# EAGLE library part ESP_THIAGO (library esp8266)
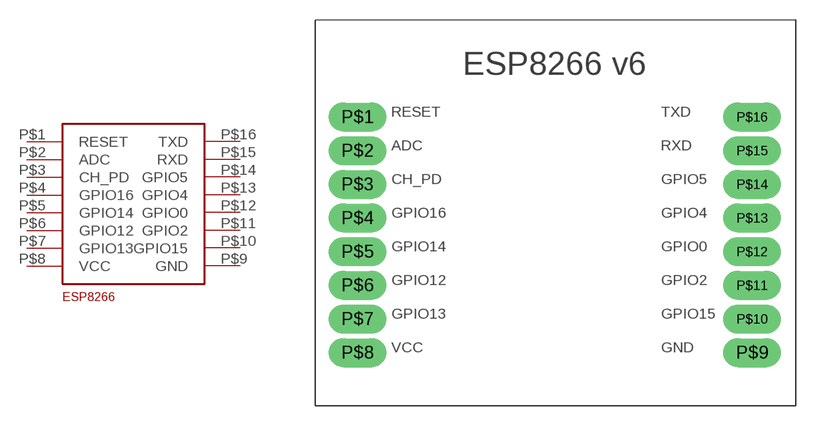
[diagram p2: symbol with the pads of ESP_THIAGO; footprint ESP_THIAGO]

Designator prefix -

## ESP_THIAGO  [ESP_THIAGO]
P$1  RESET
P$2  ADC
P$3  CH_PD
P$4  GPIO16
P$5  GPIO14
P$6  GPIO12
P$7  GPIO13
P$8  VCC  pwr
P$9  GND  pwr
P$10  GPIO15
P$11  GPIO2
P$12  GPIO0
P$13  GPIO4
P$14  GPIO5
P$15  RXD
P$16  TXD

## Footprint ESP_THIAGO (pad centres in mm)
drill 1 pad 2.184 long: P$1 0,17.78; P$2 0,15.24; P$3 0,12.7; P$4 0,10.16; P$5 0,7.62; P$6 0,5.08; P$7 0,2.54; P$8 0,0; P$9 29.75,0; P$10 29.75,2.54; P$11 29.75,5.08; P$12 29.75,7.62; P$13 29.75,10.16; P$14 29.75,12.7; P$15 29.75,15.24; P$16 29.75,17.78